# EAGLE library part GSWA-4-30DR (library rf-jqi)
SP4T RF switch
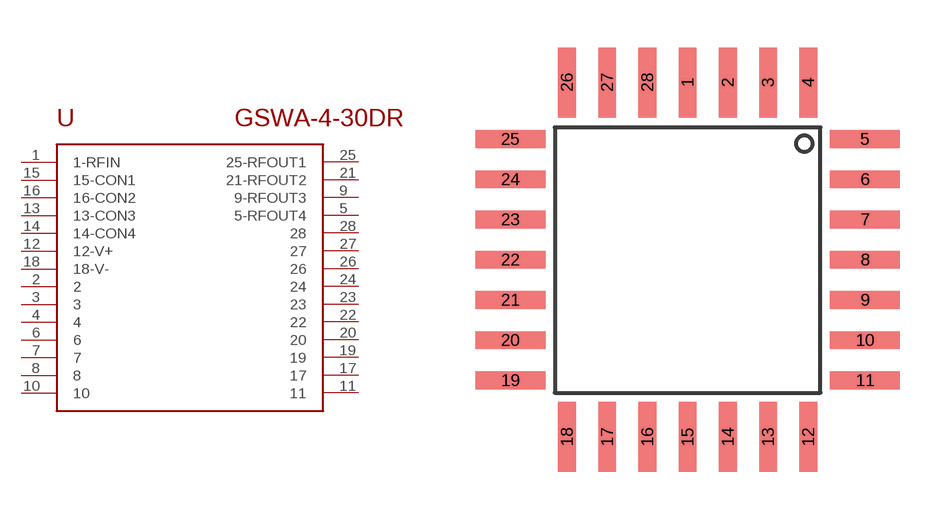
[diagram p13: symbol with the pads of PL-221; footprint PL-221]

Designator prefix -

## GSWA-4-30DR  [PL-221]
1  1-RFIN
2  2
3  3
4  4
5  5-RFOUT4
6  6
7  7
8  8
9  9-RFOUT3
10  10
11  11
12  12-V+
13  13-CON3
14  14-CON4
15  15-CON1
16  16-CON2
17  17
18  18-V-
19  19
20  20
21  21-RFOUT2
22  22
23  23
24  24
25  25-RFOUT1
26  26
27  27
28  28

## Footprint PL-221 (pad centres in mm)
smd 0.559 x 2.21: 1 7.62,12.471; 2 8.89,12.471; 3 10.16,12.471; 4 11.43,12.471; 12 11.43,1.27; 13 10.16,1.27; 14 8.89,1.27; 15 7.62,1.27; 16 6.35,1.27; 17 5.08,1.27; 18 3.81,1.27; 26 3.81,12.471; 27 5.08,12.471; 28 6.35,12.471
smd 2.21 x 0.559: 5 13.221,10.681; 6 13.221,9.411; 7 13.221,8.141; 8 13.221,6.871; 9 13.221,5.601; 10 13.221,4.331; 11 13.221,3.061; 19 2.019,3.061; 20 2.019,4.331; 21 2.019,5.601; 22 2.019,6.871; 23 2.019,8.141; 24 2.019,9.411; 25 2.019,10.681